# Altium integrated library d-case.IntLib: 1 symbol
Pins are listed as number, name and electrical type; pins without a type are passive.

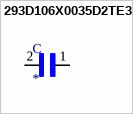
[diagram p0: symbol 293D106X0035D2TE3]

## 293D106X0035D2TE3
designator C
10ÂµF Molded Tantalum Capacitors 35V 2917 _7343 Metric_ 800mOhm; MF: Vishay Sprague; MP: 293D106X0035D2TE3; SnapEDA_Link: https://www.snapeda.com/parts/293D106X0035D2TE3/Vishay%20Sprague/view-part/1736368/?ref=snap; Availability: Unavailable; Value: *; Price: None; Package: 2917 Vishay
footprint CAPPM7343X310N
pins: 1, 2